# Altium schematic symbol library ESP32-S3FN8.SchLib: 1 symbol
Pins are listed as number, name and electrical type; pins without a type are passive.

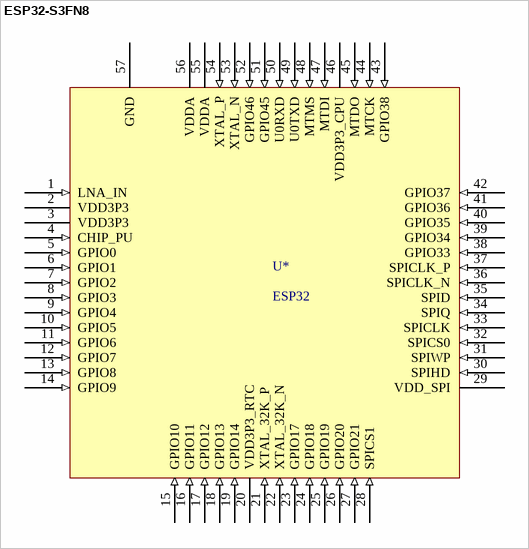
[diagram p0: symbol ESP32-S3FN8]

## ESP32-S3FN8
designator U*, comment ESP32
ESP32 MCU
footprint PCBComponent_1
pins: 1 LNA_IN (in), 2 VDD3P3 (power), 3 VDD3P3 (power), 4 CHIP_PU (in), 5 GPIO0 (in), 6 GPIO1 (in), 7 GPIO2 (in), 8 GPIO3 (in), 9 GPIO4 (in), 10 GPIO5 (in), 11 GPIO6 (in), 12 GPIO7 (in), 13 GPIO8 (in), 14 GPIO9 (in), 15 GPIO10 (in), 16 GPIO11 (in), 17 GPIO12 (in), 18 GPIO13 (in), 19 GPIO14 (in), 20 VDD3P3_RTC (power), 21 XTAL_32K_P (in), 22 XTAL_32K_N (in), 23 GPIO17 (in), 24 GPIO18 (in), 25 GPIO19 (in), 26 GPIO20 (in), 27 GPIO21 (in), 28 SPICS1 (in), 29 VDD_SPI (power), 30 SPIHD (in), 31 SPIWP (in), 32 SPICS0 (in), 33 SPICLK (in), 34 SPIQ (in), 35 SPID (in), 36 SPICLK_N (in), 37 SPICLK_P (in), 38 GPIO33 (in), 39 GPIO34 (in), 40 GPIO35 (in), 41 GPIO36 (in), 42 GPIO37 (in), 43 GPIO38 (in), 44 MTCK (in), 45 MTDO (in), 46 VDD3P3_CPU (power), 47 MTDI (in), 48 MTMS (in), 49 U0TXD (in), 50 U0RXD (in), 51 GPIO45 (in), 52 GPIO46 (in), 53 XTAL_N (in), 54 XTAL_P (in), 55 VDDA (power), 56 VDDA (power), 57 GND (power)